# EAGLE library part CONNECTOR (library connector)
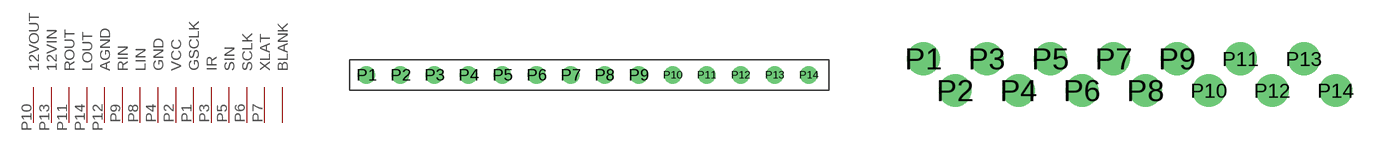
[diagram p0: symbol with the pads of CON; footprints CON, CON2]

Designator prefix -

## CONNECTOR  [CON]
P1  GSCLK
P2  VCC
P3  IR
P4  GND
P5  SIN
P6  SCLK
P7  XLAT
P8  LIN
P9  RIN
P10  12VOUT
P11  ROUT
P12  AGND
P13  12VIN
P14  LOUT

## CONNECTORSMALL  [CON2]
Pads as for CON

## CONNECTORSMALL2  [SMALL2]
1  12VIN
2  12VOUT
3  GSCLK
4  VCC
5  IR
6  GND
7  AGND
8  ROUT
9  RIN
10  LIN
11  LOUT
12  SIN
13  SCLK
14  XLAT
15  BLANK

## CONNECTORSMALL3  [SMALL3]
Pads as for SMALL2

## CONNECTORSMALL4  [SMALLL4]
P1  GND
P2  LOUT
P3  BLANK
P4  LIN
P5  XLAT
P6  RIN
P7  SCLK
P8  ROUT
P9  SIN
P10  AGND
P11  VCC
P12  IR
P13  GSCLK
VIN  12VIN
VOUT  12VOUT

## Footprint CON (pad centres in mm)
drill 0.8: P1 -12.7,0; P2 -10.16,0; P3 -7.62,0; P4 -5.08,0; P5 -2.54,0; P6 0,0; P7 2.54,0; P8 5.08,0; P9 7.62,0; P10 10.16,0; P11 12.7,0; P12 15.24,0; P13 17.78,0; P14 20.32,0

## Footprint CON2 (pad centres in mm)
drill 0.8: P1 -10.795,1.27; P2 -9.525,0; P3 -8.255,1.27; P4 -6.985,0; P5 -5.715,1.27; P6 -4.445,0; P7 -3.175,1.27; P8 -1.905,0; P9 -0.635,1.27; P10 0.635,0; P11 1.905,1.27; P12 3.175,0; P13 4.445,1.27; P14 5.715,0

## Footprint SMALL2 (pad centres in mm)
drill 1.1 pad 1.93: 1 -13.97,-12.065; 2 -13.97,-6.985
drill 0.8: 3 -13.97,0; 4 -12.7,1.27; 5 -11.43,0; 6 -10.16,1.27; 7 -8.89,0; 8 -7.62,1.27; 9 -6.35,0; 10 -5.08,1.27; 11 -3.81,0; 12 -2.54,1.27; 13 -1.27,0; 14 0,1.27; 15 1.27,0

## Footprint SMALL3 (pad centres in mm)
drill 1.1 pad 1.93: 1 -13.97,-12.065; 2 -13.97,-6.985
drill 0.8: 3 -13.97,1.27; 4 -12.7,0; 5 -11.43,1.27; 6 1.27,1.27; 7 -10.16,0; 8 -8.89,1.27; 9 -7.62,0; 10 -6.35,1.27; 11 -5.08,0; 12 -3.81,1.27; 13 -2.54,0; 14 -1.27,1.27; 15 0,0

## Footprint SMALLL4 (pad centres in mm)
drill 0.8: P1 1.27,1.27; P2 1.27,-1.27; P3 -1.27,1.27; P4 -1.27,-1.27; P5 -3.81,1.27; P6 -3.81,-1.27; P7 -6.35,1.27; P8 -6.35,-1.27; P9 -8.89,1.27; P10 -8.89,-1.27; P11 -11.43,1.27; P12 -11.43,-1.27; P13 -13.97,1.27
drill 1.1 pad 1.93: VIN -13.97,-12.065; VOUT -13.97,-6.985